# Altium integrated library ScrewTerminal.IntLib: 1 symbol
Pins are listed as number, name and electrical type; pins without a type are passive.

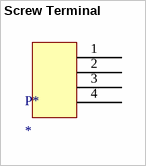
[diagram p0: symbol Screw Terminal]

## Screw Terminal
designator P*
200 mil pitch
footprint Screw Terminal
pins: 1 Pin1, 2 Pin2, 3 Pin3, 4 Pin4